# Altium schematic symbol library Crystals.SchLib: 2 symbols
Pins are listed as number, name and electrical type; pins without a type are passive.

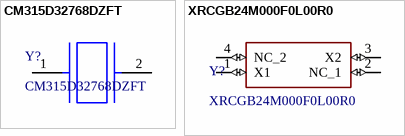
[diagram p0: symbols CM315D32768DZFT to XRCGB24M000F0L00R0]

## CM315D32768DZFT
designator Y?
Crystal 32.768KHz 4-SMD; Manufacturer: Citizen Finedevice; Package: SMD3215-2P; SuppliersPartNumber: C182057; SupplierNumber: 300-8814-2-ND; PartNumber: CM315D32768DZFT; Value: *; Link: https://www.digikey.ca/en/products/detail/citizen-finedevice-co-ltd/CM315D32768DZFT/3641380?s=N4IgTCBcDaIMIFkDMBGArAESWA7ANgA4MAtAMQBUQBdAXyA
footprint CRYSTAL_CM315D32768DZFT
pins: 1 P$1, 2 P$2

## XRCGB24M000F0L00R0
designator Y?
Crystal 24MHz 4-SMD; Manufacturer: Murata; PartNumber: XRCGB24M000F0L00R0; Package: SMD2016-4P; SuppliersPartNumber: C127896; Link: https://www.digikey.ca/en/products/detail/murata-electronics/XRCGB24M000F0L00R0/2368375?s=N4IgTCBcDaIBoCUDCBxAQmALAWQAz4DFcAZfBXEAXQF8g; SupplierNumber: 490-5575-2-ND; Value: 24MHz
footprint CRYSTAL_XRCGB24M000F0L00R0
pins: 1 X1 (io), 2 NC_1 (io), 3 X2 (io), 4 NC_2 (io)